# Altium footprint library adafruit.PCBLIB: 643 footprints (part 16 of 41)
Each footprint in its own frame and in the unit in brackets; x right, y up, seen from the top. Pads: shape width x height; smd on the part's side, far side on the other; paste and mask are expansions set on the pad; w line width, h text height; cw(c..) or ccw(c..) is an arc to the next point about the centre after c.
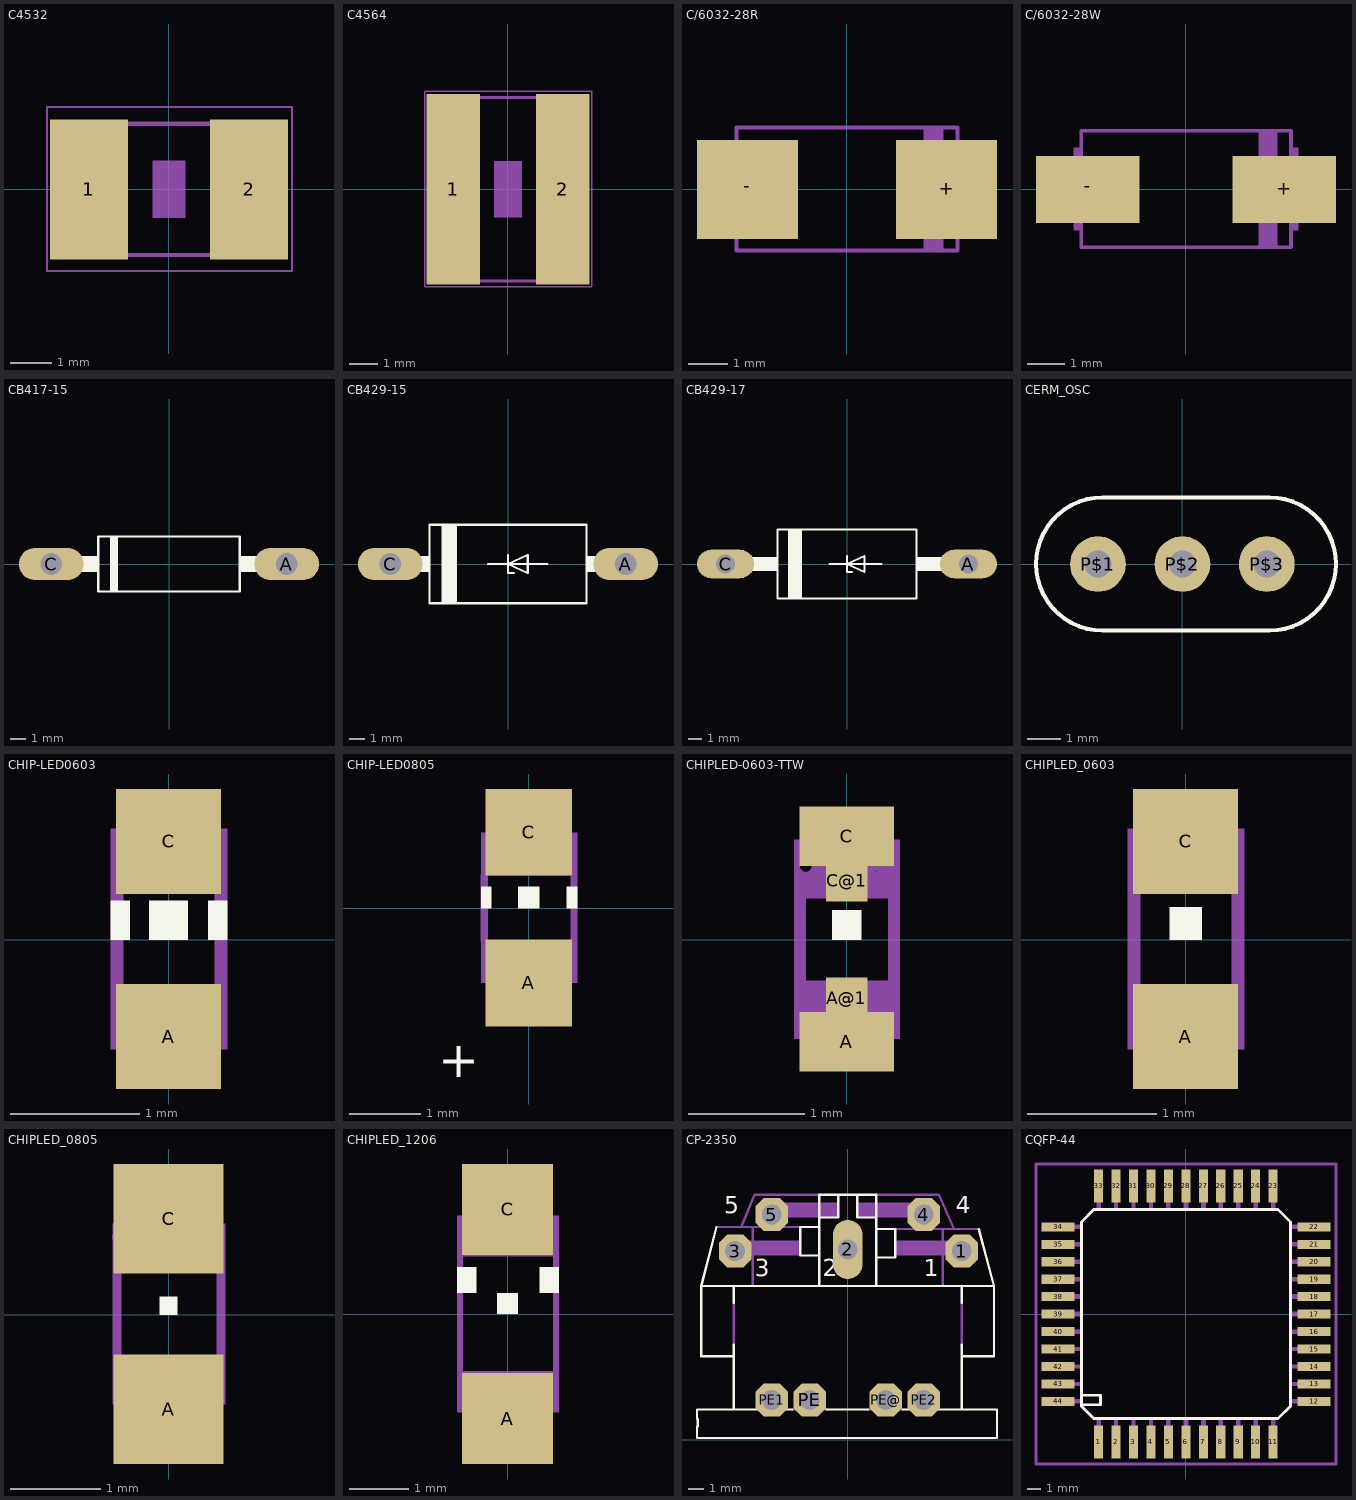
[diagram p15: the footprints below, top view; thin cyan lines are the x and y axes]

## C4532 [mil]
pads (2):
  rect 75x134 smd: 1(-76.77,0) 2(77,0)
Assembly Text Top:
  rectangle: -15.75,-27.56 16,28
Courtyard Bottom:
  rectangle: -94,-65 -56.6,65
  rectangle: 57,-65 95,65
  lines w4: -58,63 58,63 ; -57,-63 58,-63
Mech37:
  lines w2: -117.05,-78.07 118,-78.07 118,79 -117.05,79 -117.05,-78.07

## C4564 [mil]
pads (2):
  rect 75x268 smd: 1(-76.77,0) 2(77,0)
Assembly Text Top:
  rectangle: -19.69,-39.37 20,40
Courtyard Bottom:
  rectangle: -95,-132 -57.6,132
  rectangle: 57,-132 95,132
  lines w4: -59,129 58,129 ; -58,-129 59,-129
Mech37:
  lines w2: -117.05,-137.13 118,-137.13 118,138 -117.05,138 -117.05,-137.13

## C/6032-28R [mil]
pads (2):
  rect 101x99 smd: +(100,0) -(-99.41,0)
Courtyard Bottom:
  rectangle: -118.11,-43.31 -112.2,44
  rectangle: 113,-43.31 119,44
  rectangle: 77,-62.01 97,63
  lines w4: -110.24,-61.02 111,-61.02 111,62 -110.24,62 -110.24,-61.02

## C/6032-28W [mil]
pads (2):
  rect 109x71 smd: +(104,0) -(-103.35,0)
Courtyard Bottom:
  rectangle: -118.11,-43.31 -112.2,44
  rectangle: 113,-43.31 119,44
  rectangle: 77,-62.01 97,63
  lines w4: -110.24,-61.02 111,-61.02 111,62 -110.24,62 -110.24,-61.02

## CB417-15 [mil]
pads (2):
  oval 165x82.5 hole 55: A(300,0) C(-300,0)
Top Overlay:
  rectangle: -150,-70 -130,70
  rectangle: 180,-21 245,21
  rectangle: -245,-21 -180,21
  lines w6: -180,-70 -180,70 180,70 180,-70 -180,-70
Courtyard Bottom:
  lines w44: -300,0 -250,0 ; 250,0 300,0

## CB429-15 [mil]
pads (2):
  oval 165x82.5 hole 55: A(300,0) C(-300,0)
Top Overlay:
  rectangle: -170,-100 -130,100
  rectangle: -235,-20 -200,20
  rectangle: 200,-20 235,20
  lines w6: -50,0 0,0 ; 0,23 0,0 ; 15,-23 0,-23 0,0 ; 100,0 0,0 ; 0,0 50,23 50,-23 0,0 ; -200,-100 -200,100 200,100 200,-100 -200,-100
Courtyard Bottom:
  lines w40: -300,0 -240,0 ; 240,0 300,0

## CB429-17 [mil]
pads (2):
  oval 165x82.5 hole 55: A(350,0) C(-350,0)
Top Overlay:
  rectangle: -170,-100 -130,100
  rectangle: 200,-20 285,20
  rectangle: -285,-20 -200,20
  lines w6: -50,0 0,0 ; 0,23 0,0 ; 15,-23 0,-23 0,0 ; 100,0 0,0 ; 0,0 50,23 50,-23 0,0 ; -200,-100 -200,100 200,100 200,-100 -200,-100
Courtyard Bottom:
  lines w40: -350,0 -290,0 ; 290,0 350,0

## CERM_OSC [mil]
pads (3):
  round 66 hole 32: P$1(-100,0) P$2(0,0) P$3(100,0)
Top Overlay:
  lines w5: -94.49,-78.74 cw(c-94.49,0.13) -94.49,79 103,79 cw(c103,0.13) 103,-78.74 -94.49,-78.74

## CHIP-LED0603 [mil]
pads (2):
  rect 32x32 smd: A(0,-29.53) C(0,30)
Top Overlay:
  rectangle: -17.72,0 -11.81,12
  rectangle: 12,0 18,12
  rectangle: -5.91,0 6,12
Courtyard Bottom:
  rectangle: -17.72,18 18,34
  rectangle: -17.72,-33.46 18,-17.72
  lines w4: -15.75,-17.72 -15.75,18 ; 16,-17.72 16,18

## CHIP-LED0805 [mil]
pads (2):
  rect 48x48 smd: A(0,-41.34) C(0,42)
Top Overlay:
  rectangle: -26.57,0 -20.67,12
  rectangle: 21,0 27,12
  rectangle: -5.91,0 6,12
  text "+" at -50,-100 h34
Courtyard Bottom:
  rectangle: -26.57,18 27,42
  rectangle: -26.57,-41.34 27,-17.72
  lines w4: -24.61,-17.72 -24.61,18 ; 25,-18.7 25,18

## CHIPLED-0603-TTW [mil]
pads (4):
  rect 32x20 smd: A(0,-34.45) C(0,35)
  rect 14x14 smd: A@1(0,-19.68) C@1(0,20)
Top Overlay:
  rectangle: -4.92,0 5,10
Top Solder:
  rectangle: -6.89,13 7,28
  rectangle: -15.75,25 16,45
  rectangle: -15.75,-44.29 16,-24.61
  rectangle: -6.89,-26.57 7,-12.8
Courtyard Bottom:
  circle w2: c-13.78,25 r3
  rectangle: -17.72,28 -9.84,34
  rectangle: -10.83,22 -8.86,24
  rectangle: -17.72,14 -15.75,29
  rectangle: 10,22 18,34
  rectangle: -17.72,14 18,23
  rectangle: -17.72,-33.46 -9.84,-13.78
  rectangle: 10,-33.46 18,-13.78
  rectangle: -10.83,-22.64 11,-13.78
  rectangle: -10.83,-25.59 -6.89,-21.65
  rectangle: 7,-25.59 11,-21.65
  lines w2: -10.83,-32.48 cw(c0.09,-32.48) 11,-32.48
  lines w4: -15.75,-13.78 -15.75,15 ; -11.81,33 ccw(c0.09,33) 12,33 ; 16,-13.78 16,14

## CHIPLED_0603 [mil]
pads (2):
  rect 32x32 smd: A(0,-29.53) C(0,30)
Top Overlay:
  rectangle: -4.92,0 5,10
Courtyard Bottom:
  circle w2: c-13.78,25 r3
  rectangle: -17.72,28 -9.84,34
  rectangle: -10.83,22 -8.86,24
  rectangle: -17.72,14 -15.75,29
  rectangle: 10,22 18,34
  rectangle: -17.72,14 18,23
  rectangle: -17.72,-33.46 -9.84,-13.78
  rectangle: 10,-33.46 18,-13.78
  rectangle: -10.83,-22.64 11,-13.78
  rectangle: -10.83,-25.59 -6.89,-21.65
  rectangle: 7,-25.59 11,-21.65
  lines w2: -10.83,-32.48 cw(c0.09,-32.48) 11,-32.48
  lines w4: -15.75,-13.78 -15.75,15 ; -11.81,33 ccw(c0.09,33) 12,33 ; 16,-13.78 16,14

## CHIPLED_0805 [mil]
pads (2):
  rect 48x48 smd: A(0,-41.34) C(0,42)
Top Overlay:
  rectangle: -3.94,0 4,8
Courtyard Bottom:
  circle w4: c-17.72,34 r5
  rectangle: 12,20 25,40
  rectangle: -12.8,20 -6.89,30
  rectangle: 7,20 13,30
  rectangle: -7.87,20 8,27
  rectangle: 12,-39.37 25,-19.68
  rectangle: -24.61,-39.37 -11.81,-19.68
  rectangle: 7,-29.53 13,-19.68
  rectangle: -12.8,-29.53 -6.89,-19.68
  rectangle: -7.87,-26.57 8,-19.68
  rectangle: -23.62,20 -11.81,32
  rectangle: -24.61,37 -15.75,40
  lines w4: -22.64,-19.68 -22.64,37 ; -13.78,-39.37 cw(c0.11,-39.37) 14,-39.37 ; -13.78,40 ccw(c0.11,40) 14,40 ; 23,-20.67 23,21

## CHIPLED_1206 [mil]
pads (2):
  rect 60x60 smd: A(0,-68.9) C(0,69)
Top Overlay:
  rectangle: -33.46,14 -20.67,31
  rectangle: 21,14 34,31
  rectangle: -6.89,0 7,14
Courtyard Bottom:
  circle w4: c-21.65,57 r4
  rectangle: -33.46,61 -13.78,65
  rectangle: -33.46,49 -24.61,62
  rectangle: -17.72,49 -12.8,58
  rectangle: -25.59,49 -8.86,54
  rectangle: 14,52 34,65
  rectangle: 10,49 34,54
  rectangle: -33.46,38 34,50
  rectangle: -33.46,-64.96 34,-37.4
  lines w4: -31.5,-37.4 -31.5,38 ; -15.75,64 ccw(c0.13,64) 16,64 ; 32,-37.4 32,38

## CP-2350 [mil]
pads (9):
  oct 86x86 hole 52: 1(300,496) 3(-296.06,496) 4(200,592) 5(-200,592) PE(-100,104) PE1(-200,104) PE2(200,104) PE@(100,104)
  oval 78x156 hole 52: 2(0,500)
Top Overlay:
  lines w6: -345,559 -385,404 ; -300,249 -300,219 ; -300,359 -300,404 ; -295,79 -145,79 ; -55,79 55,79 ; 145,79 300,79 ; 300,249 300,219 ; 300,359 300,404 ; 345,554 385,404 ; -385,404 -385,219 -300,219 ; -385,404 -300,404 ; -300,219 -300,79 -396.38,79 -396.38,54 -394.69,54 -394.69,34 -396.38,34 -396.38,4 393,4 393,34 393,38 393,58 393,54 393,79 300,79 ; -300,404 -75,404 ; -75,404 75,404 ; -75,404 -75,484 ; -75,484 -75,559 ; -75,484 -125,484 -125,559 -75,559 ; -75,559 -75,584 ; -75,584 -75,644 -25,644 ; -75,584 -25,584 -25,644 ; -25,644 25,644 ; 25,644 75,644 75,584 ; 25,644 25,584 75,584 ; 75,404 300,404 ; 75,404 75,479 ; 75,479 75,554 ; 75,479 125,479 125,554 75,554 ; 75,554 75,584 ; 300,79 300,219 ; 300,219 385,219 385,404 ; 300,404 385,404
  text "2" at -65,414 h77.5
  text "4" at 285,579 h77.5
  text "5" at -325,579 h77.5
  text "3" at -245,414 h77.5
  text "1" at 200,414 h77.5
Courtyard Bottom:
  rectangle: 125,484 315,524
  rectangle: 25,584 215,624
  rectangle: -215,584 -25,624
  rectangle: -315,484 -125,524
  lines w6: -345,559 -280,559 ; -300,249 -300,359 ; -250,404 -250,559 ; -145,79 -55,79 ; -125,559 -250,559 ; -75,644 -245,644 -280,559 ; 55,79 145,79 ; 75,644 240,644 280,554 ; 125,554 250,554 ; 250,404 250,554 ; 300,249 300,359 ; 345,554 280,554 ; -280,559 -250,559 ; 250,554 280,554

## CQFP-44 [mil]
pads (44):
  rect 26x95 smd: 1(-250,-366.14) 2(-200,-366.14) 3(-150,-366.14) 4(-100,-366.14) 5(-50,-366.14) 6(0,-366.14) 7(50,-366.14) 8(100,-366.14) 9(150,-366.14) 10(200,-366.14) 11(250,-366.14) 23(250,367) 24(200,367) 25(150,367) 26(100,367) 27(50,367) 28(0,367) 29(-50,367) 30(-100,367) 31(-150,367) 32(-200,367) 33(-250,367)
  rect 95x26 smd: 12(367,-250) 13(367,-200) 14(367,-150) 15(367,-100) 16(367,-50) 17(367,0) 18(367,50) 19(367,100) 20(367,150) 21(367,200) 22(367,250) 34(-366.14,250) 35(-366.14,200) 36(-366.14,150) 37(-366.14,100) 38(-366.14,50) 39(-366.14,0) 40(-366.14,-50) 41(-366.14,-100) 42(-366.14,-150) 43(-366.14,-200) 44(-366.14,-250)
Top Overlay:
  lines w8: -295.28,-232.28 -244.09,-232.28 -244.09,-259.84 -299.21,-259.84 ; -299.21,-259.84 -299.21,264 -263.78,300 264,300 300,264 300,-263.78 264,-299.21 -263.78,-299.21 -299.21,-263.78 -299.21,-259.84
Courtyard Bottom:
  rectangle: -256.3,-397.64 -243.7,-299.21
  rectangle: -206.3,-397.64 -193.7,-299.21
  rectangle: -156.3,-397.64 -143.7,-299.21
  rectangle: -106.3,-397.64 -93.7,-299.21
  rectangle: -56.3,-397.64 -43.7,-299.21
  rectangle: -6.3,-397.64 7,-299.21
  rectangle: 44,-397.64 57,-299.21
  rectangle: 94,-397.64 107,-299.21
  rectangle: 144,-397.64 157,-299.21
  rectangle: 194,-397.64 207,-299.21
  rectangle: 244,-397.64 257,-299.21
  rectangle: 300,-256.3 398,-243.7
  rectangle: 300,-206.3 398,-193.7
  rectangle: 300,-156.3 398,-143.7
  rectangle: 300,-106.3 398,-93.7
  rectangle: 300,-56.3 398,-43.7
  rectangle: 300,-6.3 398,7
  rectangle: 300,44 398,57
  rectangle: 300,94 398,107
  rectangle: 300,144 398,157
  rectangle: 300,194 398,207
  rectangle: 300,244 398,257
  rectangle: 244,300 257,398
  rectangle: 194,300 207,398
  rectangle: 144,300 157,398
  rectangle: 94,300 107,398
  rectangle: 44,300 57,398
  rectangle: -6.3,300 7,398
  rectangle: -56.3,300 -43.7,398
  rectangle: -106.3,300 -93.7,398
  rectangle: -156.3,300 -143.7,398
  rectangle: -206.3,300 -193.7,398
  rectangle: -256.3,300 -243.7,398
  rectangle: -397.64,244 -299.21,257
  rectangle: -397.64,194 -299.21,207
  rectangle: -397.64,144 -299.21,157
  rectangle: -397.64,94 -299.21,107
  rectangle: -397.64,44 -299.21,57
  rectangle: -397.64,-6.3 -299.21,7
  rectangle: -397.64,-56.3 -299.21,-43.7
  rectangle: -397.64,-106.3 -299.21,-93.7
  rectangle: -397.64,-156.3 -299.21,-143.7
  rectangle: -397.64,-206.3 -299.21,-193.7
  rectangle: -397.64,-256.3 -299.21,-243.7
Mech37:
  lines w8: -429.25,-429.25 430,-429.25 430,430 -429.25,430 -429.25,-429.25